# Altium schematic symbol library MMBT3904.SchLib: 1 symbol
Pins are listed as number, name and electrical type; pins without a type are passive.

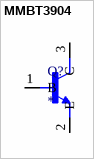
[diagram p0: symbol MMBT3904]

## MMBT3904
designator Q?
MMBT3904 Series 40 V CE Breakdown 0.2 A NPN General Purpose Amplifier - SOT-23; MF: {'manufacturer': u'Diotec Semiconductor'}; Package: None; Price: None; Value: *; MP: MMBT3904; Availability: Unavailable
footprint SOT95P240X120-3N
pins: 1 B, 2 E, 3 C